# EAGLE library part XCR3064XL/100 (library Xilinx)
XCR3064XL CoolRunner CPLD
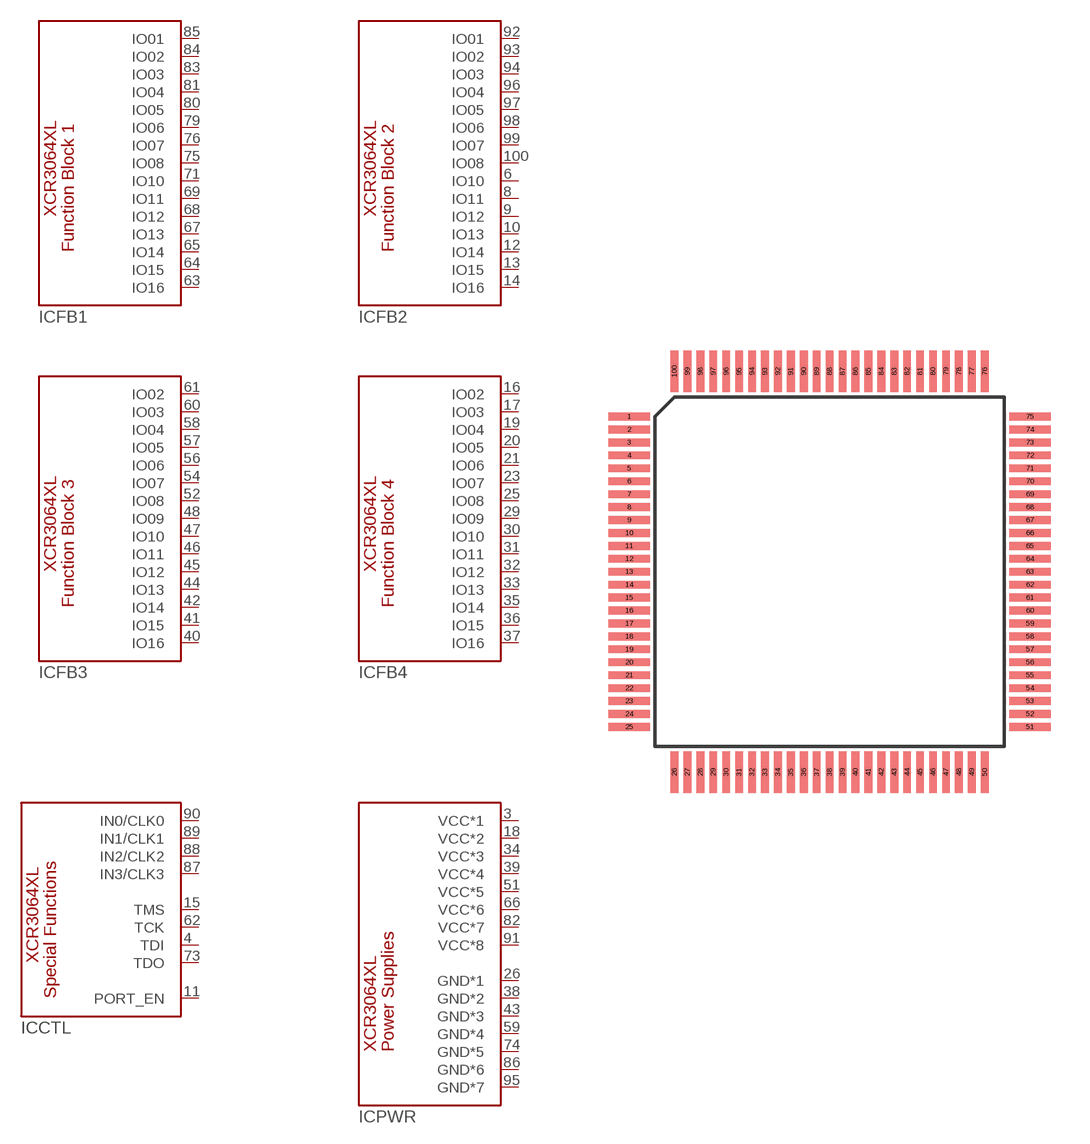
[diagram p17: symbol with the pads of VQ100; footprint VQ100]

Designator prefix IC; gates FB1=XCR3064/VQ100-FB1 FB2=XCR3064/VQ100-FB2 FB3=XCR3064/VQ100-FB3 FB4=XCR3064/VQ100-FB4 CTL=XCR3064/VQ100-CTL PWR=XCR3064/VQ100-PWR

## XCR3064XL/100-VQ100  [VQ100]
3  PWR:VCC*1  pwr
4  CTL:TDI
6  FB2:IO10
8  FB2:IO11
9  FB2:IO12
10  FB2:IO13
11  CTL:PORT_EN
12  FB2:IO14
13  FB2:IO15
14  FB2:IO16
15  CTL:TMS
16  FB4:IO02
17  FB4:IO03
18  PWR:VCC*2  pwr
19  FB4:IO04
20  FB4:IO05
21  FB4:IO06
23  FB4:IO07
25  FB4:IO08
26  PWR:GND*1  pwr
29  FB4:IO09
30  FB4:IO10
31  FB4:IO11
32  FB4:IO12
33  FB4:IO13
34  PWR:VCC*3  pwr
35  FB4:IO14
36  FB4:IO15
37  FB4:IO16
38  PWR:GND*2  pwr
39  PWR:VCC*4  pwr
40  FB3:IO16
41  FB3:IO15
42  FB3:IO14
43  PWR:GND*3  pwr
44  FB3:IO13
45  FB3:IO12
46  FB3:IO11
47  FB3:IO10
48  FB3:IO09
51  PWR:VCC*5  pwr
52  FB3:IO08
54  FB3:IO07
56  FB3:IO06
57  FB3:IO05
58  FB3:IO04
59  PWR:GND*4  pwr
60  FB3:IO03
61  FB3:IO02
62  CTL:TCK
63  FB1:IO16
64  FB1:IO15
65  FB1:IO14
66  PWR:VCC*6  pwr
67  FB1:IO13
68  FB1:IO12
69  FB1:IO11
71  FB1:IO10
73  CTL:TDO
74  PWR:GND*5  pwr
75  FB1:IO08
76  FB1:IO07
79  FB1:IO06
80  FB1:IO05
81  FB1:IO04
82  PWR:VCC*7  pwr
83  FB1:IO03
84  FB1:IO02
85  FB1:IO01
86  PWR:GND*6  pwr
87  CTL:IN3/CLK3
88  CTL:IN2/CLK2
89  CTL:IN1/CLK1
90  CTL:IN0/CLK0
91  PWR:VCC*8  pwr
92  FB2:IO01
93  FB2:IO02
94  FB2:IO03
95  PWR:GND*7  pwr
96  FB2:IO04
97  FB2:IO05
98  FB2:IO06
99  FB2:IO07
100  FB2:IO08

## Footprint VQ100 (pad centres in mm)
smd 1.6 x 0.3: 1 -7.75,6; 2 -7.75,5.5; 3 -7.75,5; 4 -7.75,4.5; 5 -7.75,4; 6 -7.75,3.5; 7 -7.75,3; 8 -7.75,2.5; 9 -7.75,2; 10 -7.75,1.5; 11 -7.75,1; 12 -7.75,0.5; 13 -7.75,0; 14 -7.75,-0.5; 15 -7.75,-1; 16 -7.75,-1.5; 17 -7.75,-2; 18 -7.75,-2.5; 19 -7.75,-3; 20 -7.75,-3.5; 21 -7.75,-4; 22 -7.75,-4.5; 23 -7.75,-5; 24 -7.75,-5.5; 25 -7.75,-6; 51 7.75,-6; 52 7.75,-5.5; 53 7.75,-5; 54 7.75,-4.5; 55 7.75,-4; 56 7.75,-3.5; 57 7.75,-3; 58 7.75,-2.5; 59 7.75,-2; 60 7.75,-1.5; 61 7.75,-1; 62 7.75,-0.5; 63 7.75,0; 64 7.75,0.5; 65 7.75,1; 66 7.75,1.5; 67 7.75,2; 68 7.75,2.5; 69 7.75,3; 70 7.75,3.5; 71 7.75,4; 72 7.75,4.5; 73 7.75,5; 74 7.75,5.5; 75 7.75,6
smd 0.3 x 1.6: 26 -6,-7.75; 27 -5.5,-7.75; 28 -5,-7.75; 29 -4.5,-7.75; 30 -4,-7.75; 31 -3.5,-7.75; 32 -3,-7.75; 33 -2.5,-7.75; 34 -2,-7.75; 35 -1.5,-7.75; 36 -1,-7.75; 37 -0.5,-7.75; 38 0,-7.75; 39 0.5,-7.75; 40 1,-7.75; 41 1.5,-7.75; 42 2,-7.75; 43 2.5,-7.75; 44 3,-7.75; 45 3.5,-7.75; 46 4,-7.75; 47 4.5,-7.75; 48 5,-7.75; 49 5.5,-7.75; 50 6,-7.75; 76 6,7.75; 77 5.5,7.75; 78 5,7.75; 79 4.5,7.75; 80 4,7.75; 81 3.5,7.75; 82 3,7.75; 83 2.5,7.75; 84 2,7.75; 85 1.5,7.75; 86 1,7.75; 87 0.5,7.75; 88 0,7.75; 89 -0.5,7.75; 90 -1,7.75; 91 -1.5,7.75; 92 -2,7.75; 93 -2.5,7.75; 94 -3,7.75; 95 -3.5,7.75; 96 -4,7.75; 97 -4.5,7.75; 98 -5,7.75; 99 -5.5,7.75; 100 -6,7.75